# Altium integrated library Actel IGLOOPLUS FPGA.IntLib: 349 symbols (part 1 of 2)
Pins are listed as number, name and electrical type; pins without a type are passive.

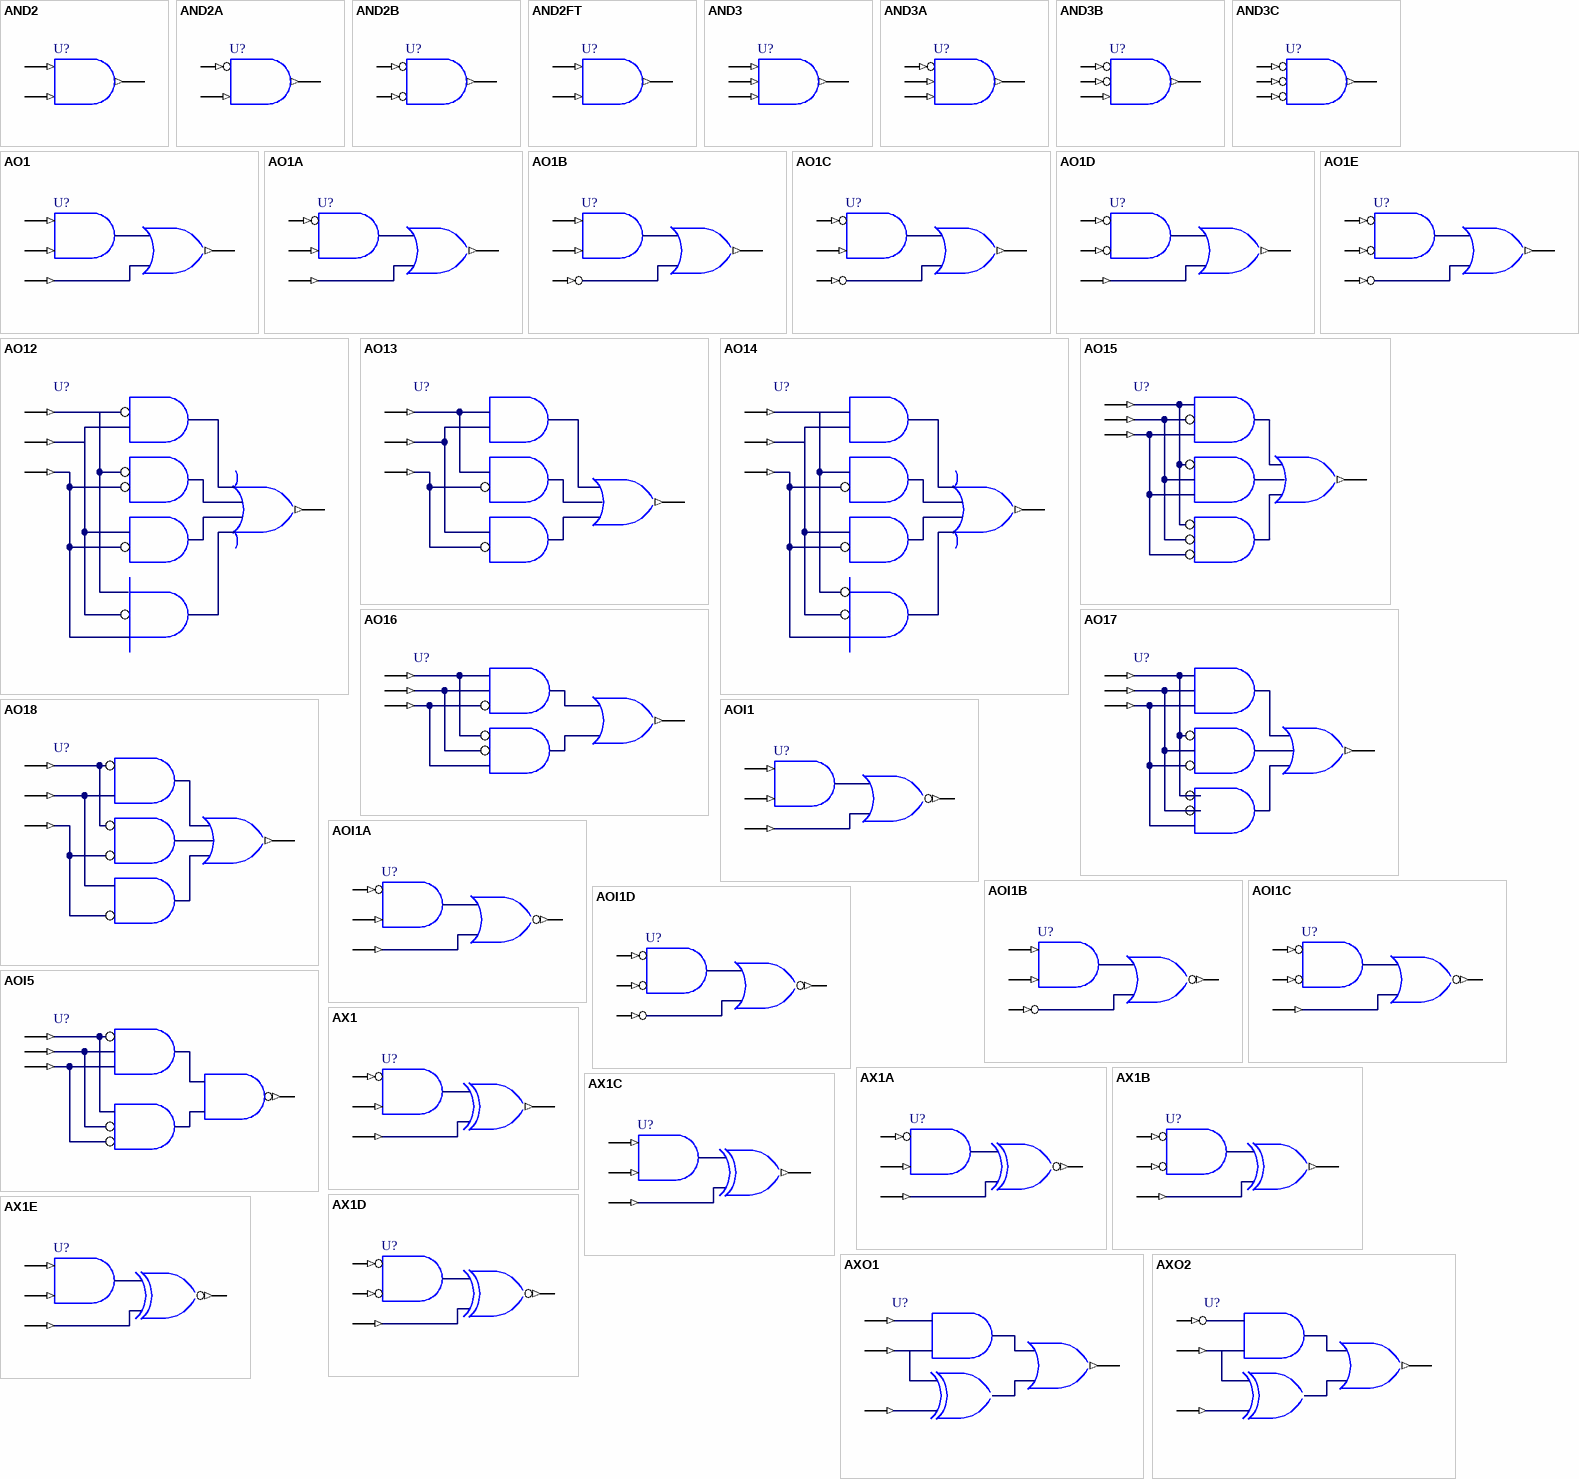
[diagram p0: symbols AND2 to AXO2]

## AND2
designator U?
2 Input AND; FPGAVendor: Actel; Published: 7-Sep-2009; Publisher: Altium Limited; HelpURL: http://www.actel.com/documents/pa3_libguide_ug.pdf
pins: A (in), B (in), Y (out)

## AND2A
designator U?
2 Input AND with Active Low A Input; FPGAVendor: Actel; Published: 7-Sep-2009; Publisher: Altium Limited; HelpURL: http://www.actel.com/documents/pa3_libguide_ug.pdf
pins: A (in), B (in), Y (out)

## AND2B
designator U?
2 Input AND with Active Low Inputs; FPGAVendor: Actel; Published: 7-Sep-2009; Publisher: Altium Limited; HelpURL: http://www.actel.com/documents/pa3_libguide_ug.pdf
pins: A (in), B (in), Y (out)

## AND2FT
designator U?
2 Input AND; FPGAVendor: Actel; Published: 7-Sep-2009; Publisher: Altium Limited; HelpURL: http://www.actel.com/documents/pa3_libguide_ug.pdf
pins: A (in), B (in), Y (out)

## AND3
designator U?
3 Input AND; FPGAVendor: Actel; Published: 7-Sep-2009; Publisher: Altium Limited; HelpURL: http://www.actel.com/documents/pa3_libguide_ug.pdf
pins: A (in), B (in), C (in), Y (out)

## AND3A
designator U?
3 Input AND with Active Low A Input; FPGAVendor: Actel; Published: 7-Sep-2009; Publisher: Altium Limited; HelpURL: http://www.actel.com/documents/pa3_libguide_ug.pdf
pins: A (in), B (in), C (in), Y (out)

## AND3B
designator U?
3 Input AND with Active Low A Input; FPGAVendor: Actel; Published: 7-Sep-2009; Publisher: Altium Limited; HelpURL: http://www.actel.com/documents/pa3_libguide_ug.pdf
pins: A (in), B (in), C (in), Y (out)

## AND3C
designator U?
3 Input AND-OR with Active Low A and C Inputs; FPGAVendor: Actel; Published: 7-Sep-2009; Publisher: Altium Limited; HelpURL: http://www.actel.com/documents/pa3_libguide_ug.pdf
pins: A (in), B (in), C (in), Y (out)

## AO1
designator U?
3 Input AND-OR with Active Low A Input; FPGAVendor: Actel; Published: 7-Sep-2009; Publisher: Altium Limited; HelpURL: http://www.actel.com/documents/pa3_libguide_ug.pdf
pins: A (in), B (in), C (in), Y (out)

## AO1A
designator U?
Ground; FPGAVendor: Actel; Published: 7-Sep-2009; Publisher: Altium Limited; HelpURL: http://www.actel.com/documents/pa3_libguide_ug.pdf
pins: A (in), B (in), C (in), Y (out)

## AO1B
designator U?
Inverter; FPGAVendor: Actel; Published: 7-Sep-2009; Publisher: Altium Limited; HelpURL: http://www.actel.com/documents/pa3_libguide_ug.pdf
pins: A (in), B (in), C (in), Y (out)

## AO1C
designator U?
2 to 1 Multiplexer; FPGAVendor: Actel; Published: 7-Sep-2009; Publisher: Altium Limited; HelpURL: http://www.actel.com/documents/pa3_libguide_ug.pdf
pins: A (in), B (in), C (in), Y (out)

## AO1D
designator U?
2 to 1 Multiplexer with Active Low Select; FPGAVendor: Actel; Published: 7-Sep-2009; Publisher: Altium Limited; HelpURL: http://www.actel.com/documents/pa3_libguide_ug.pdf
pins: A (in), B (in), C (in), Y (out)

## AO1E
designator U?
2 Input NAND; FPGAVendor: Actel; Published: 7-Sep-2009; Publisher: Altium Limited; HelpURL: http://www.actel.com/documents/pa3_libguide_ug.pdf
pins: A (in), B (in), C (in), Y (out)

## AO12
designator U?
3 Input AND-OR with Active Low C Input; FPGAVendor: Actel; Published: 7-Sep-2009; Publisher: Altium Limited; HelpURL: http://www.actel.com/documents/pa3_libguide_ug.pdf
pins: A (in), B (in), C (in), Y (out)

## AO13
designator U?
3 Input AND-OR-INVERT; FPGAVendor: Actel; Published: 7-Sep-2009; Publisher: Altium Limited; HelpURL: http://www.actel.com/documents/pa3_libguide_ug.pdf
pins: A (in), B (in), C (in), Y (out)

## AO14
designator U?
3 Input AND-OR-INVERT with Active Low A and C Inputs; FPGAVendor: Actel; Published: 7-Sep-2009; Publisher: Altium Limited; HelpURL: http://www.actel.com/documents/pa3_libguide_ug.pdf
pins: A (in), B (in), C (in), Y (out)

## AO15
designator U?
3 Input AND-OR-INVERT with Active Low A Input; FPGAVendor: Actel; Published: 7-Sep-2009; Publisher: Altium Limited; HelpURL: http://www.actel.com/documents/pa3_libguide_ug.pdf
pins: A (in), B (in), C (in), Y (out)

## AO16
designator U?
3 Input AND-OR-INVERT with Active Low C Input; FPGAVendor: Actel; Published: 7-Sep-2009; Publisher: Altium Limited; HelpURL: http://www.actel.com/documents/pa3_libguide_ug.pdf
pins: A (in), B (in), C (in), Y (out)

## AO17
designator U?
Buffer; FPGAVendor: Actel; Published: 7-Sep-2009; Publisher: Altium Limited; HelpURL: http://www.actel.com/documents/pa3_libguide_ug.pdf
pins: A (in), B (in), C (in), Y (out)

## AO18
designator U?
Inverter (Only for internal embedded memory); FPGAVendor: Actel; Published: 7-Sep-2009; Publisher: Altium Limited; HelpURL: http://www.actel.com/documents/pa3_libguide_ug.pdf
pins: A (in), B (in), C (in), Y (out)

## AOI1
designator U?
2 Input NAND with Active Low A Input; FPGAVendor: Actel; Published: 7-Sep-2009; Publisher: Altium Limited; HelpURL: http://www.actel.com/documents/pa3_libguide_ug.pdf
pins: A (in), B (in), C (in), Y (out)

## AOI1A
designator U?
3 Input NAND; FPGAVendor: Actel; Published: 7-Sep-2009; Publisher: Altium Limited; HelpURL: http://www.actel.com/documents/pa3_libguide_ug.pdf
pins: A (in), B (in), C (in), Y (out)

## AOI1B
designator U?
NAND3FTT; FPGAVendor: Actel; Published: 7-Sep-2009; Publisher: Altium Limited; HelpURL: http://www.actel.com/documents/pa3_libguide_ug.pdf
pins: A (in), B (in), C (in), Y (out)

## AOI1C
designator U?
NAND3FFT; FPGAVendor: Actel; Published: 7-Sep-2009; Publisher: Altium Limited; HelpURL: http://www.actel.com/documents/pa3_libguide_ug.pdf
pins: A (in), B (in), C (in), Y (out)

## AOI1D
designator U?
2 Input NOR; FPGAVendor: Actel; Published: 7-Sep-2009; Publisher: Altium Limited; HelpURL: http://www.actel.com/documents/pa3_libguide_ug.pdf
pins: A (in), B (in), C (in), Y (out)

## AOI5
designator U?
2 Input NOR with Active Low A Input; FPGAVendor: Actel; Published: 7-Sep-2009; Publisher: Altium Limited; HelpURL: http://www.actel.com/documents/pa3_libguide_ug.pdf
pins: A (in), B (in), C (in), Y (out)

## AX1
designator U?
3 Input NOR; FPGAVendor: Actel; Published: 7-Sep-2009; Publisher: Altium Limited; HelpURL: http://www.actel.com/documents/pa3_libguide_ug.pdf
pins: A (in), B (in), C (in), Y (out)

## AX1A
designator U?
3 Input NOR with Active Low A and B Inputs; FPGAVendor: Actel; Published: 7-Sep-2009; Publisher: Altium Limited; HelpURL: http://www.actel.com/documents/pa3_libguide_ug.pdf
pins: A (in), B (in), C (in), Y (out)

## AX1B
designator U?
3 Input NOR with Active Low A Input; FPGAVendor: Actel; Published: 7-Sep-2009; Publisher: Altium Limited; HelpURL: http://www.actel.com/documents/pa3_libguide_ug.pdf
pins: A (in), B (in), C (in), Y (out)

## AX1C
designator U?
Buffer (Only for internal embedded memory); FPGAVendor: Actel; Published: 7-Sep-2009; Publisher: Altium Limited; HelpURL: http://www.actel.com/documents/pa3_libguide_ug.pdf
pins: A (in), B (in), C (in), Y (out)

## AX1D
designator U?
3 Input OR-AND; FPGAVendor: Actel; Published: 7-Sep-2009; Publisher: Altium Limited; HelpURL: http://www.actel.com/documents/pa3_libguide_ug.pdf
pins: A (in), B (in), C (in), Y (out)

## AX1E
designator U?
3 Input OR-AND with Active Low A and C Inputs; FPGAVendor: Actel; Published: 7-Sep-2009; Publisher: Altium Limited; HelpURL: http://www.actel.com/documents/pa3_libguide_ug.pdf
pins: A (in), B (in), C (in), Y (out)

## AXO1
designator U?
3 Input OR-AND with Active Low A Input; FPGAVendor: Actel; Published: 7-Sep-2009; Publisher: Altium Limited; HelpURL: http://www.actel.com/documents/pa3_libguide_ug.pdf
pins: A (in), B (in), C (in), Y (out)

## AXO2
designator U?
3 Input OR-AND with Active Low C Input; FPGAVendor: Actel; Published: 7-Sep-2009; Publisher: Altium Limited; HelpURL: http://www.actel.com/documents/pa3_libguide_ug.pdf
pins: A (in), B (in), C (in), Y (out)

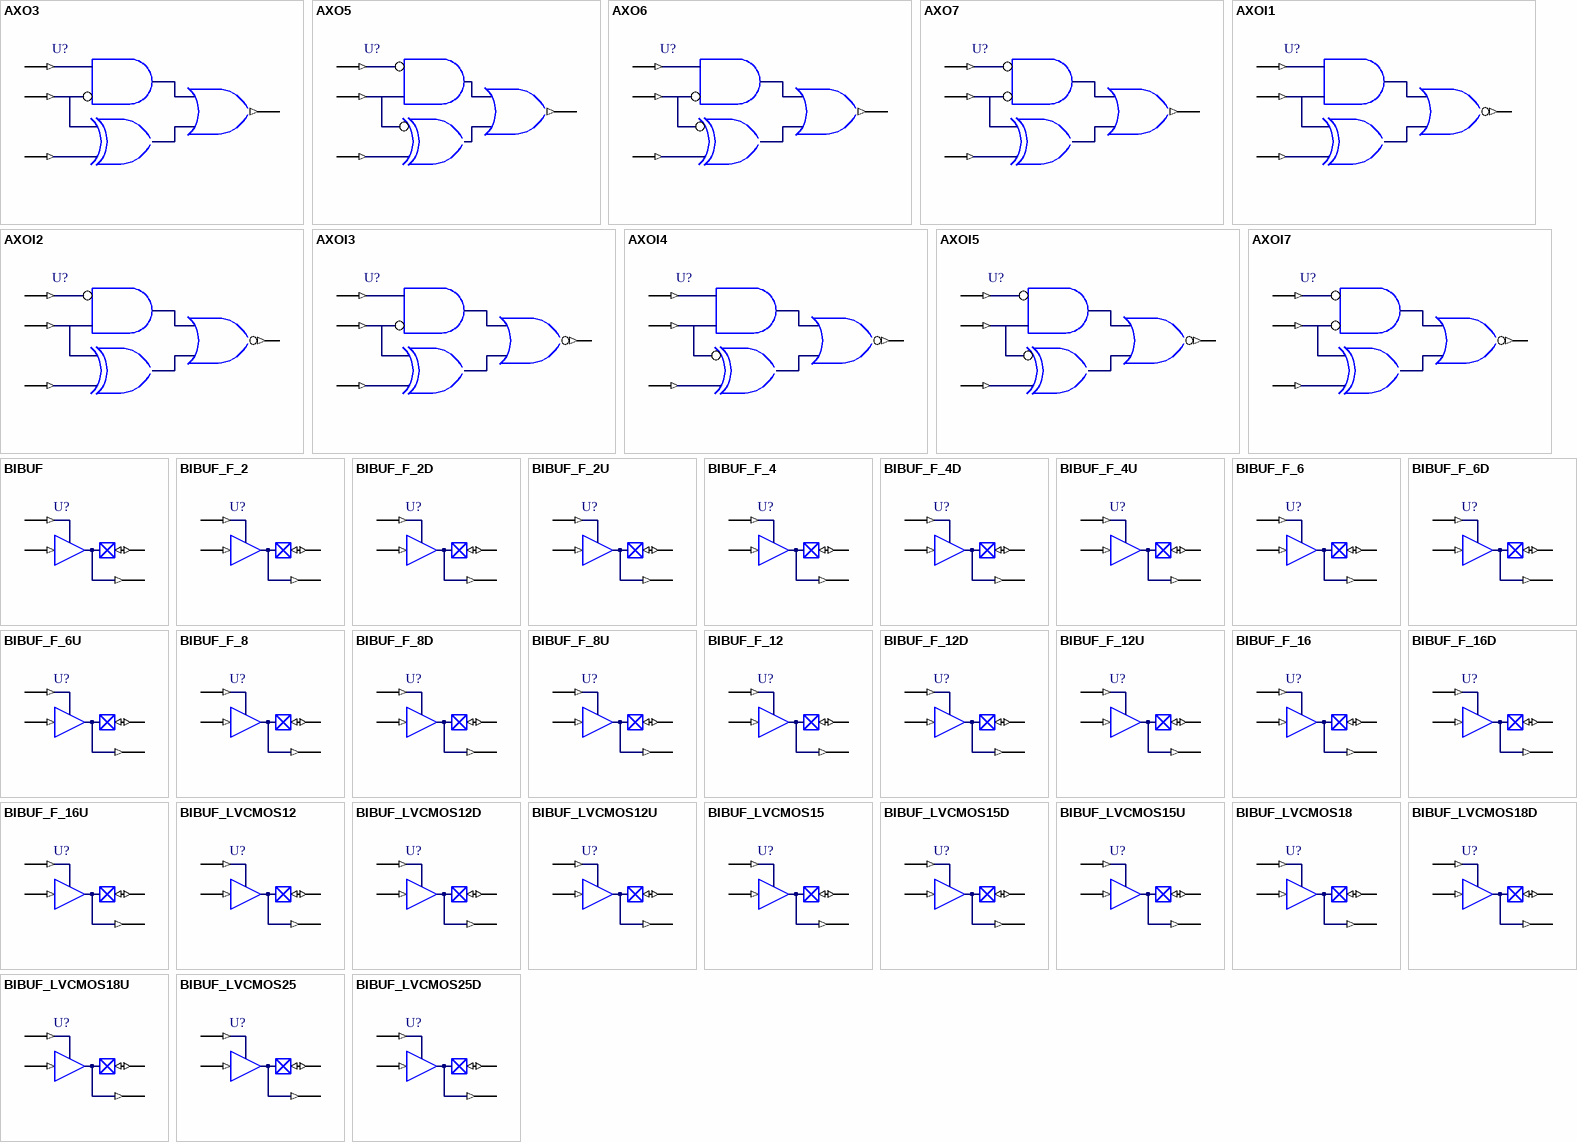
[diagram p1: symbols AXO3 to BIBUF_LVCMOS25D]

## AXO3
designator U?
3 Input OR-NAND; FPGAVendor: Actel; Published: 7-Sep-2009; Publisher: Altium Limited; HelpURL: http://www.actel.com/documents/pa3_libguide_ug.pdf
pins: A (in), B (in), C (in), Y (out)

## AXO5
designator U?
3 Input OR-NAND with Active Low A and C Inputs; FPGAVendor: Actel; Published: 7-Sep-2009; Publisher: Altium Limited; HelpURL: http://www.actel.com/documents/pa3_libguide_ug.pdf
pins: A (in), B (in), C (in), Y (out)

## AXO6
designator U?
3 Input OR-NAND with Active Low A Input; FPGAVendor: Actel; Published: 7-Sep-2009; Publisher: Altium Limited; HelpURL: http://www.actel.com/documents/pa3_libguide_ug.pdf
pins: A (in), B (in), C (in), Y (out)

## AXO7
designator U?
3 Input OR-NAND with Active Low C Input; FPGAVendor: Actel; Published: 7-Sep-2009; Publisher: Altium Limited; HelpURL: http://www.actel.com/documents/pa3_libguide_ug.pdf
pins: A (in), B (in), C (in), Y (out)

## AXOI1
designator U?
2 Input OR; FPGAVendor: Actel; Published: 7-Sep-2009; Publisher: Altium Limited; HelpURL: http://www.actel.com/documents/pa3_libguide_ug.pdf
pins: A (in), B (in), C (in), Y (out)

## AXOI2
designator U?
2 Input OR with Active Low A Input; FPGAVendor: Actel; Published: 7-Sep-2009; Publisher: Altium Limited; HelpURL: http://www.actel.com/documents/pa3_libguide_ug.pdf
pins: A (in), B (in), C (in), Y (out)

## AXOI3
designator U?
3 Input OR; FPGAVendor: Actel; Published: 7-Sep-2009; Publisher: Altium Limited; HelpURL: http://www.actel.com/documents/pa3_libguide_ug.pdf
pins: A (in), B (in), C (in), Y (out)

## AXOI4
designator U?
3 Input OR with Active Low A and B Inputs; FPGAVendor: Actel; Published: 7-Sep-2009; Publisher: Altium Limited; HelpURL: http://www.actel.com/documents/pa3_libguide_ug.pdf
pins: A (in), B (in), C (in), Y (out)

## AXOI5
designator U?
3 Input OR with Active Low A Input; FPGAVendor: Actel; Published: 7-Sep-2009; Publisher: Altium Limited; HelpURL: http://www.actel.com/documents/pa3_libguide_ug.pdf
pins: A (in), B (in), C (in), Y (out)

## AXOI7
designator U?
Power; FPGAVendor: Actel; Published: 7-Sep-2009; Publisher: Altium Limited; HelpURL: http://www.actel.com/documents/pa3_libguide_ug.pdf
pins: A (in), B (in), C (in), Y (out)

## BIBUF
designator U?
2 Input Exclusive NOR; FPGAVendor: Actel; Published: 7-Sep-2009; Publisher: Altium Limited; HelpURL: http://www.actel.com/documents/pa3_libguide_ug.pdf
pins: D (in), E (in), PAD (io), Y (out)

## BIBUF_F_2
designator U?
Positive Edge Triggered D-Type Flip-Flop with Active High Clear; FPGAVendor: Actel; Published: 7-Sep-2009; Publisher: Altium Limited; HelpURL: http://www.actel.com/documents/pa3_libguide_ug.pdf
pins: D (in), E (in), PAD (io), Y (out)

## BIBUF_F_2D
designator U?
Negative Edge Triggered D-Type Flip-Flop with Active High Set and Clear; FPGAVendor: Actel; Published: 7-Sep-2009; Publisher: Altium Limited; HelpURL: http://www.actel.com/documents/pa3_libguide_ug.pdf
pins: D (in), E (in), PAD (io), Y (out)

## BIBUF_F_2U
designator U?
Negative Edge Triggered D-Type Flip-Flop with Active High Set and Clear / and Active Low Output; FPGAVendor: Actel; Published: 7-Sep-2009; Publisher: Altium Limited; HelpURL: http://www.actel.com/documents/pa3_libguide_ug.pdf
pins: D (in), E (in), PAD (io), Y (out)

## BIBUF_F_4
designator U?
Negative Edge Triggered D-Type Flip-Flop with Active High Set; FPGAVendor: Actel; Published: 7-Sep-2009; Publisher: Altium Limited; HelpURL: http://www.actel.com/documents/pa3_libguide_ug.pdf
pins: D (in), E (in), PAD (io), Y (out)

## BIBUF_F_4D
designator U?
Negative Edge Triggered D-Type Flip-Flop with Active High Set and / Active Low Output; FPGAVendor: Actel; Published: 7-Sep-2009; Publisher: Altium Limited; HelpURL: http://www.actel.com/documents/pa3_libguide_ug.pdf
pins: D (in), E (in), PAD (io), Y (out)

## BIBUF_F_4U
designator U?
Positive Edge Triggered D-Type Flip-Flop with Active High Set; FPGAVendor: Actel; Published: 7-Sep-2009; Publisher: Altium Limited; HelpURL: http://www.actel.com/documents/pa3_libguide_ug.pdf
pins: D (in), E (in), PAD (io), Y (out)

## BIBUF_F_6
designator U?
Positive Edge Triggered D-Type Flip-Flop with Active High Set and Active / Low Output; FPGAVendor: Actel; Published: 7-Sep-2009; Publisher: Altium Limited; HelpURL: http://www.actel.com/documents/pa3_libguide_ug.pdf
pins: D (in), E (in), PAD (io), Y (out)

## BIBUF_F_6D
designator U?
Active High Latch; FPGAVendor: Actel; Published: 7-Sep-2009; Publisher: Altium Limited; HelpURL: http://www.actel.com/documents/pa3_libguide_ug.pdf
pins: D (in), E (in), PAD (io), Y (out)

## BIBUF_F_6U
designator U?
Active High Latch with Active High Set and Clear; FPGAVendor: Actel; Published: 7-Sep-2009; Publisher: Altium Limited; HelpURL: http://www.actel.com/documents/pa3_libguide_ug.pdf
pins: D (in), E (in), PAD (io), Y (out)

## BIBUF_F_8
designator U?
Active High Latch with Active High Set and Clear and Active Low Output; FPGAVendor: Actel; Published: 7-Sep-2009; Publisher: Altium Limited; HelpURL: http://www.actel.com/documents/pa3_libguide_ug.pdf
pins: D (in), E (in), PAD (io), Y (out)

## BIBUF_F_8D
designator U?
Active High Latch with Active High Clear; FPGAVendor: Actel; Published: 7-Sep-2009; Publisher: Altium Limited; HelpURL: http://www.actel.com/documents/pa3_libguide_ug.pdf
pins: D (in), E (in), PAD (io), Y (out)

## BIBUF_F_8U
designator U?
Active High Latch with Active High Clear and Active Low Output; FPGAVendor: Actel; Published: 7-Sep-2009; Publisher: Altium Limited; HelpURL: http://www.actel.com/documents/pa3_libguide_ug.pdf
pins: D (in), E (in), PAD (io), Y (out)

## BIBUF_F_12
designator U?
2 Input Exclusive NOR with Active Low A Input; FPGAVendor: Actel; Published: 7-Sep-2009; Publisher: Altium Limited; HelpURL: http://www.actel.com/documents/pa3_libguide_ug.pdf
pins: D (in), E (in), PAD (io), Y (out)

## BIBUF_F_12D
designator U?
2 Input Exclusive OR; FPGAVendor: Actel; Published: 7-Sep-2009; Publisher: Altium Limited; HelpURL: http://www.actel.com/documents/pa3_libguide_ug.pdf
pins: D (in), E (in), PAD (io), Y (out)

## BIBUF_F_12U
designator U?
2 Input Exclusive OR with Active Low A Input; FPGAVendor: Actel; Published: 7-Sep-2009; Publisher: Altium Limited; HelpURL: http://www.actel.com/documents/pa3_libguide_ug.pdf
pins: D (in), E (in), PAD (io), Y (out)

## BIBUF_F_16
designator U?
Positive Edge Triggered D-Type Flip-Flop; FPGAVendor: Actel; Published: 7-Sep-2009; Publisher: Altium Limited; HelpURL: http://www.actel.com/documents/pa3_libguide_ug.pdf
pins: D (in), E (in), PAD (io), Y (out)

## BIBUF_F_16D
designator U?
Positive Edge Triggered D-Type Flip-Flop with Active High Set and Clear; FPGAVendor: Actel; Published: 7-Sep-2009; Publisher: Altium Limited; HelpURL: http://www.actel.com/documents/pa3_libguide_ug.pdf
pins: D (in), E (in), PAD (io), Y (out)

## BIBUF_F_16U
designator U?
Positive Edge Triggered D-Type Flip-Flop with Active High Set and Clear / and Active Low Output; FPGAVendor: Actel; Published: 7-Sep-2009; Publisher: Altium Limited; HelpURL: http://www.actel.com/documents/pa3_libguide_ug.pdf
pins: D (in), E (in), PAD (io), Y (out)

## BIBUF_LVCMOS12
designator U?
LVCMOS12 Bi-Directional Pad; FPGAVendor: Actel; Published: 7-Sep-2009; Publisher: Altium Limited; HelpURL: http://www.actel.com/documents/pa3_libguide_ug.pdf
pins: D (in), E (in), PAD (io), Y (out)

## BIBUF_LVCMOS12D
designator U?
LVCMOS12D Bi-Directional Pad; FPGAVendor: Actel; Published: 7-Sep-2009; Publisher: Altium Limited; HelpURL: http://www.actel.com/documents/pa3_libguide_ug.pdf
pins: D (in), E (in), PAD (io), Y (out)

## BIBUF_LVCMOS12U
designator U?
LVCMOS12U Bi-Directional Pad; FPGAVendor: Actel; Published: 7-Sep-2009; Publisher: Altium Limited; HelpURL: http://www.actel.com/documents/pa3_libguide_ug.pdf
pins: D (in), E (in), PAD (io), Y (out)

## BIBUF_LVCMOS15
designator U?
Active Low Latch with Active Low Output; FPGAVendor: Actel; Published: 7-Sep-2009; Publisher: Altium Limited; HelpURL: http://www.actel.com/documents/pa3_libguide_ug.pdf
pins: D (in), E (in), PAD (io), Y (out)

## BIBUF_LVCMOS15D
designator U?
Active Low Latch with Active High Set; FPGAVendor: Actel; Published: 7-Sep-2009; Publisher: Altium Limited; HelpURL: http://www.actel.com/documents/pa3_libguide_ug.pdf
pins: D (in), E (in), PAD (io), Y (out)

## BIBUF_LVCMOS15U
designator U?
Active Low Latch with Active High Set and Active Low Output; FPGAVendor: Actel; Published: 7-Sep-2009; Publisher: Altium Limited; HelpURL: http://www.actel.com/documents/pa3_libguide_ug.pdf
pins: D (in), E (in), PAD (io), Y (out)

## BIBUF_LVCMOS18
designator U?
Active High Latch with Active High Set; FPGAVendor: Actel; Published: 7-Sep-2009; Publisher: Altium Limited; HelpURL: http://www.actel.com/documents/pa3_libguide_ug.pdf
pins: D (in), E (in), PAD (io), Y (out)

## BIBUF_LVCMOS18D
designator U?
Active High Latch with Active High Set and Active Low Output; FPGAVendor: Actel; Published: 7-Sep-2009; Publisher: Altium Limited; HelpURL: http://www.actel.com/documents/pa3_libguide_ug.pdf
pins: D (in), E (in), PAD (io), Y (out)

## BIBUF_LVCMOS18U
designator U?
2.5 Volt CMOS input levels; FPGAVendor: Actel; Published: 7-Sep-2009; Publisher: Altium Limited; HelpURL: http://www.actel.com/documents/pa3_libguide_ug.pdf
pins: D (in), E (in), PAD (io), Y (out)

## BIBUF_LVCMOS25
designator U?
3.3 Volt CMOS input levels; FPGAVendor: Actel; Published: 7-Sep-2009; Publisher: Altium Limited; HelpURL: http://www.actel.com/documents/pa3_libguide_ug.pdf
pins: D (in), E (in), PAD (io), Y (out)

## BIBUF_LVCMOS25D
designator U?
2.5 Volt CMOS input levels, low power; FPGAVendor: Actel; Published: 7-Sep-2009; Publisher: Altium Limited; HelpURL: http://www.actel.com/documents/pa3_libguide_ug.pdf
pins: D (in), E (in), PAD (io), Y (out)

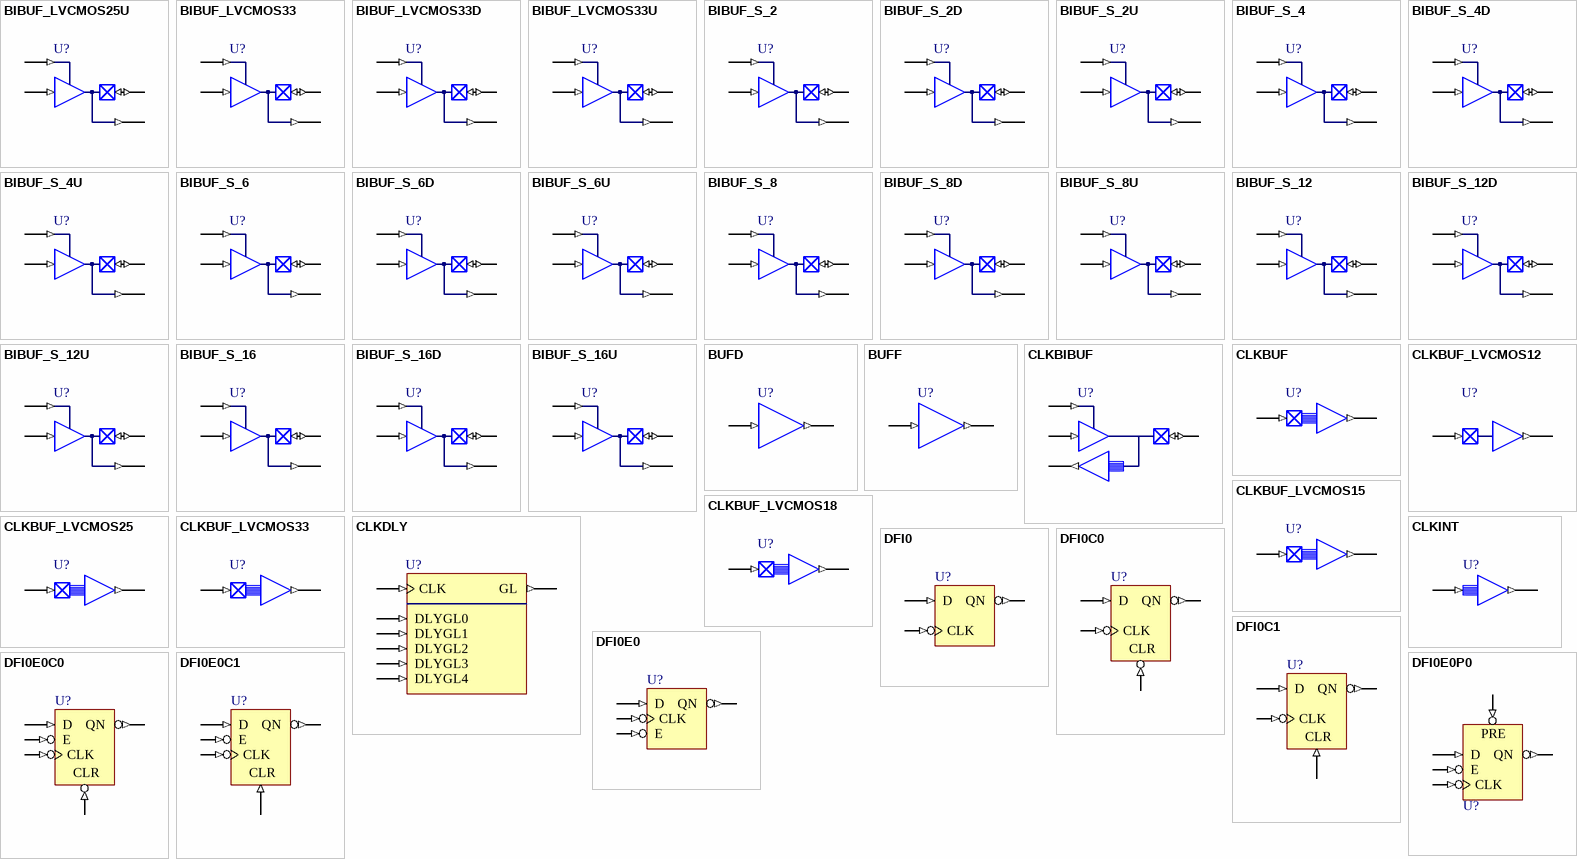
[diagram p2: symbols BIBUF_LVCMOS25U to DFI0E0P0]

## BIBUF_LVCMOS25U
designator U?
2.5 Volt CMOS input levels, Schmitt Trigger; FPGAVendor: Actel; Published: 7-Sep-2009; Publisher: Altium Limited; HelpURL: http://www.actel.com/documents/pa3_libguide_ug.pdf
pins: D (in), E (in), PAD (io), Y (out)

## BIBUF_LVCMOS33
designator U?
3.3 Volt CMOS input levels, Schmitt Trigger; FPGAVendor: Actel; Published: 7-Sep-2009; Publisher: Altium Limited; HelpURL: http://www.actel.com/documents/pa3_libguide_ug.pdf
pins: D (in), E (in), PAD (io), Y (out)

## BIBUF_LVCMOS33D
designator U?
2.5 Volt CMOS input levels, low power, Schmitt Trigger; FPGAVendor: Actel; Published: 7-Sep-2009; Publisher: Altium Limited; HelpURL: http://www.actel.com/documents/pa3_libguide_ug.pdf
pins: D (in), E (in), PAD (io), Y (out)

## BIBUF_LVCMOS33U
designator U?
2.5 Volt CMOS input levels, with pull-up resistor; FPGAVendor: Actel; Published: 7-Sep-2009; Publisher: Altium Limited; HelpURL: http://www.actel.com/documents/pa3_libguide_ug.pdf
pins: D (in), E (in), PAD (io), Y (out)

## BIBUF_S_2
designator U?
2.5 Volt CMOS input levels, low power, Schmitt Trigger; FPGAVendor: Actel; Published: 7-Sep-2009; Publisher: Altium Limited; HelpURL: http://www.actel.com/documents/pa3_libguide_ug.pdf
pins: D (in), E (in), PAD (io), Y (out)

## BIBUF_S_2D
designator U?
2.5 Volt CMOS input levels, with pull-up resistor and Schmitt Trigger; FPGAVendor: Actel; Published: 7-Sep-2009; Publisher: Altium Limited; HelpURL: http://www.actel.com/documents/pa3_libguide_ug.pdf
pins: D (in), E (in), PAD (io), Y (out)

## BIBUF_S_2U
designator U?
3.3 Volt CMOS input levels, with pull-up resistor and Schmitt Trigger; FPGAVendor: Actel; Published: 7-Sep-2009; Publisher: Altium Limited; HelpURL: http://www.actel.com/documents/pa3_libguide_ug.pdf
pins: D (in), E (in), PAD (io), Y (out)

## BIBUF_S_4
designator U?
2.5 Volt CMOS input levels, low power; FPGAVendor: Actel; Published: 7-Sep-2009; Publisher: Altium Limited; HelpURL: http://www.actel.com/documents/pa3_libguide_ug.pdf
pins: D (in), E (in), PAD (io), Y (out)

## BIBUF_S_4D
designator U?
2.5 Volt CMOS input levels, Schmitt Trigger; FPGAVendor: Actel; Published: 7-Sep-2009; Publisher: Altium Limited; HelpURL: http://www.actel.com/documents/pa3_libguide_ug.pdf
pins: D (in), E (in), PAD (io), Y (out)

## BIBUF_S_4U
designator U?
3.3 Volt CMOS input levels, Schmitt Trigger; FPGAVendor: Actel; Published: 7-Sep-2009; Publisher: Altium Limited; HelpURL: http://www.actel.com/documents/pa3_libguide_ug.pdf
pins: D (in), E (in), PAD (io), Y (out)

## BIBUF_S_6
designator U?
2.5 Volt CMOS input levels, low power, Schmitt Trigger; FPGAVendor: Actel; Published: 7-Sep-2009; Publisher: Altium Limited; HelpURL: http://www.actel.com/documents/pa3_libguide_ug.pdf
pins: D (in), E (in), PAD (io), Y (out)

## BIBUF_S_6D
designator U?
2.5 Volt CMOS input levels, with pull-up resistor; FPGAVendor: Actel; Published: 7-Sep-2009; Publisher: Altium Limited; HelpURL: http://www.actel.com/documents/pa3_libguide_ug.pdf
pins: D (in), E (in), PAD (io), Y (out)

## BIBUF_S_6U
designator U?
3.3 Volt CMOS input levels, with pull-up resistor; FPGAVendor: Actel; Published: 7-Sep-2009; Publisher: Altium Limited; HelpURL: http://www.actel.com/documents/pa3_libguide_ug.pdf
pins: D (in), E (in), PAD (io), Y (out)

## BIBUF_S_8
designator U?
2.5 Volt CMOS input levels, low power, with pull-up resistor; FPGAVendor: Actel; Published: 7-Sep-2009; Publisher: Altium Limited; HelpURL: http://www.actel.com/documents/pa3_libguide_ug.pdf
pins: D (in), E (in), PAD (io), Y (out)

## BIBUF_S_8D
designator U?
2.5 Volt CMOS input levels, with pull-up resistor and Schmitt Trigger; FPGAVendor: Actel; Published: 7-Sep-2009; Publisher: Altium Limited; HelpURL: http://www.actel.com/documents/pa3_libguide_ug.pdf
pins: D (in), E (in), PAD (io), Y (out)

## BIBUF_S_8U
designator U?
3.3 Volt CMOS input levels, with pull-up resistor and Schmitt Trigger; FPGAVendor: Actel; Published: 7-Sep-2009; Publisher: Altium Limited; HelpURL: http://www.actel.com/documents/pa3_libguide_ug.pdf
pins: D (in), E (in), PAD (io), Y (out)

## BIBUF_S_12
designator U?
Global Buffer with Internal Connection; FPGAVendor: Actel; Published: 7-Sep-2009; Publisher: Altium Limited; HelpURL: http://www.actel.com/documents/pa3_libguide_ug.pdf
pins: D (in), E (in), PAD (io), Y (out)

## BIBUF_S_12D
designator U?
2.5 Volt CMOS input levels; FPGAVendor: Actel; Published: 7-Sep-2009; Publisher: Altium Limited; HelpURL: http://www.actel.com/documents/pa3_libguide_ug.pdf
pins: D (in), E (in), PAD (io), Y (out)

## BIBUF_S_12U
designator U?
3.3 Volt CMOS input levels; FPGAVendor: Actel; Published: 7-Sep-2009; Publisher: Altium Limited; HelpURL: http://www.actel.com/documents/pa3_libguide_ug.pdf
pins: D (in), E (in), PAD (io), Y (out)

## BIBUF_S_16
designator U?
2.5 Volt CMOS input levels, low power; FPGAVendor: Actel; Published: 7-Sep-2009; Publisher: Altium Limited; HelpURL: http://www.actel.com/documents/pa3_libguide_ug.pdf
pins: D (in), E (in), PAD (io), Y (out)

## BIBUF_S_16D
designator U?
2.5 Volt CMOS input levels, Schmitt Trigger; FPGAVendor: Actel; Published: 7-Sep-2009; Publisher: Altium Limited; HelpURL: http://www.actel.com/documents/pa3_libguide_ug.pdf
pins: D (in), E (in), PAD (io), Y (out)

## BIBUF_S_16U
designator U?
3.3 Volt CMOS input levels, Schmitt Trigger; FPGAVendor: Actel; Published: 7-Sep-2009; Publisher: Altium Limited; HelpURL: http://www.actel.com/documents/pa3_libguide_ug.pdf
pins: D (in), E (in), PAD (io), Y (out)

## BUFD
designator U?
2.5 Volt CMOS input levels, Schmitt Trigger; FPGAVendor: Actel; Published: 7-Sep-2009; Publisher: Altium Limited; HelpURL: http://www.actel.com/documents/pa3_libguide_ug.pdf
pins: A (in), Y (out)

## BUFF
designator U?
3.3 Volt CMOS input levels, Schmitt Trigger; FPGAVendor: Actel; Published: 7-Sep-2009; Publisher: Altium Limited; HelpURL: http://www.actel.com/documents/pa3_libguide_ug.pdf
pins: A (in), Y (out)

## CLKBIBUF
designator U?
2.5 Volt CMOS input levels, low power, Schmitt Trigger; FPGAVendor: Actel; Published: 7-Sep-2009; Publisher: Altium Limited; HelpURL: http://www.actel.com/documents/pa3_libguide_ug.pdf
pins: D (in), E (in), PAD (io), Y (out)

## CLKBUF
designator U?
3.3 Volt CMOS input levels, with pull-up resistor; FPGAVendor: Actel; Published: 7-Sep-2009; Publisher: Altium Limited; HelpURL: http://www.actel.com/documents/pa3_libguide_ug.pdf
pins: PAD (in), Y (out)

## CLKBUF_LVCMOS12
designator U?
LVCMOS12 Bi-Directional Pad; FPGAVendor: Actel; Published: 7-Sep-2009; Publisher: Altium Limited; HelpURL: http://www.actel.com/documents/pa3_libguide_ug.pdf
pins: PAD (in), Y (out)

## CLKBUF_LVCMOS15
designator U?
2.5 Volt CMOS input levels, low power; FPGAVendor: Actel; Published: 7-Sep-2009; Publisher: Altium Limited; HelpURL: http://www.actel.com/documents/pa3_libguide_ug.pdf
pins: PAD (in), Y (out)

## CLKBUF_LVCMOS18
designator U?
2.5 Volt CMOS input levels, Schmitt Trigger; FPGAVendor: Actel; Published: 7-Sep-2009; Publisher: Altium Limited; HelpURL: http://www.actel.com/documents/pa3_libguide_ug.pdf
pins: PAD (in), Y (out)

## CLKBUF_LVCMOS25
designator U?
3.3 Volt CMOS input levels, Schmitt Trigger; FPGAVendor: Actel; Published: 7-Sep-2009; Publisher: Altium Limited; HelpURL: http://www.actel.com/documents/pa3_libguide_ug.pdf
pins: PAD (in), Y (out)

## CLKBUF_LVCMOS33
designator U?
2.5 Volt CMOS input levels, low power, Schmitt Trigger; FPGAVendor: Actel; Published: 7-Sep-2009; Publisher: Altium Limited; HelpURL: http://www.actel.com/documents/pa3_libguide_ug.pdf
pins: PAD (in), Y (out)

## CLKDLY
designator U?
2.5 Volt CMOS input levels, low drive strength, high slew rate; FPGAVendor: Actel; Published: 7-Sep-2009; Publisher: Altium Limited; HelpURL: http://www.actel.com/documents/pa3_libguide_ug.pdf
pins: CLK (in), DLYGL0 (in), DLYGL1 (in), DLYGL2 (in), DLYGL3 (in), DLYGL4 (in), GL (out)

## CLKINT
designator U?
2.5 Volt CMOS input levels, low drive strength, low slew rate; FPGAVendor: Actel; Published: 7-Sep-2009; Publisher: Altium Limited; HelpURL: http://www.actel.com/documents/pa3_libguide_ug.pdf
pins: A (in), Y (out)

## DFI0
designator U?
2.5 Volt CMOS input levels, high drive strength, low slew rate, with pull-up resistor; FPGAVendor: Actel; Published: 7-Sep-2009; Publisher: Altium Limited; HelpURL: http://www.actel.com/documents/pa3_libguide_ug.pdf
pins: CLK (in), D (in), QN (out)

## DFI0C0
designator U?
2.5 Volt CMOS input levels, high drive strength, normal slew rate, with pull-up resistor; FPGAVendor: Actel; Published: 7-Sep-2009; Publisher: Altium Limited; HelpURL: http://www.actel.com/documents/pa3_libguide_ug.pdf
pins: CLK (in), CLR (in), D (in), QN (out)

## DFI0C1
designator U?
2.5 Volt CMOS input levels, low drive strength, high slew rate, with pull-up resistor; FPGAVendor: Actel; Published: 7-Sep-2009; Publisher: Altium Limited; HelpURL: http://www.actel.com/documents/pa3_libguide_ug.pdf
pins: CLK (in), CLR (in), D (in), QN (out)

## DFI0E0
designator U?
2.5 Volt CMOS input levels, low drive strength, low slew rate, with pull-up resistor; FPGAVendor: Actel; Published: 7-Sep-2009; Publisher: Altium Limited; HelpURL: http://www.actel.com/documents/pa3_libguide_ug.pdf
pins: CLK (in), D (in), E (in), QN (out)

## DFI0E0C0
designator U?
2.5 Volt CMOS input levels, low drive strength, normal slew rate, with pull-up resistor; FPGAVendor: Actel; Published: 7-Sep-2009; Publisher: Altium Limited; HelpURL: http://www.actel.com/documents/pa3_libguide_ug.pdf
pins: CLK (in), CLR (in), D (in), E (in), QN (out)

## DFI0E0C1
designator U?
2.5 Volt CMOS input levels, low power, high drive strength, high slew rate; FPGAVendor: Actel; Published: 7-Sep-2009; Publisher: Altium Limited; HelpURL: http://www.actel.com/documents/pa3_libguide_ug.pdf
pins: CLK (in), CLR (in), D (in), E (in), QN (out)

## DFI0E0P0
designator U?
2.5 Volt CMOS input levels, low power, high drive strength, low slew rate; FPGAVendor: Actel; Published: 7-Sep-2009; Publisher: Altium Limited; HelpURL: http://www.actel.com/documents/pa3_libguide_ug.pdf
pins: CLK (in), D (in), E (in), PRE (in), QN (out)

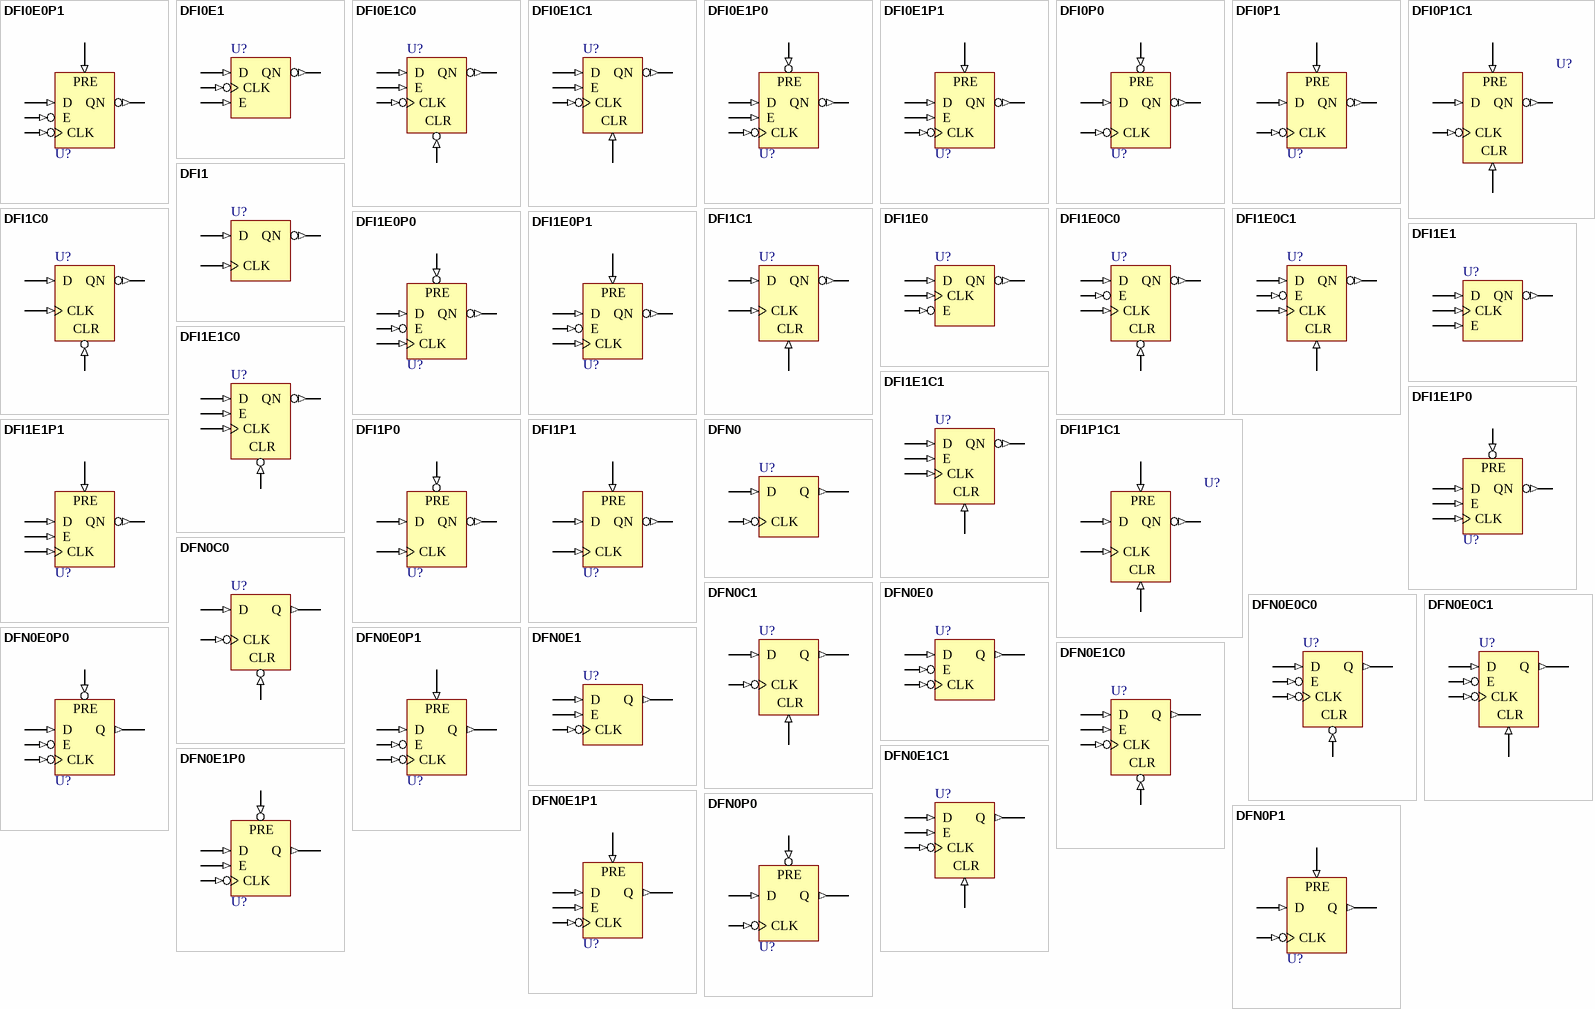
[diagram p3: symbols DFI0E0P1 to DFN0P1]

## DFI0E0P1
designator U?
2.5 Volt CMOS input levels, low power, high drive strength, normal slew rate; FPGAVendor: Actel; Published: 7-Sep-2009; Publisher: Altium Limited; HelpURL: http://www.actel.com/documents/pa3_libguide_ug.pdf
pins: CLK (in), D (in), E (in), PRE (in), QN (out)

## DFI0E1
designator U?
2.5 Volt CMOS input levels, low power, low drive strength, high slew rate; FPGAVendor: Actel; Published: 7-Sep-2009; Publisher: Altium Limited; HelpURL: http://www.actel.com/documents/pa3_libguide_ug.pdf
pins: CLK (in), D (in), E (in), QN (out)

## DFI0E1C0
designator U?
2.5 Volt CMOS input levels, low power, low drive strength, low slew rate; FPGAVendor: Actel; Published: 7-Sep-2009; Publisher: Altium Limited; HelpURL: http://www.actel.com/documents/pa3_libguide_ug.pdf
pins: CLK (in), CLR (in), D (in), E (in), QN (out)

## DFI0E1C1
designator U?
2.5 Volt CMOS input levels, low power, low drive strength, normal slew rate; FPGAVendor: Actel; Published: 7-Sep-2009; Publisher: Altium Limited; HelpURL: http://www.actel.com/documents/pa3_libguide_ug.pdf
pins: CLK (in), CLR (in), D (in), E (in), QN (out)

## DFI0E1P0
designator U?
2.5 Volt CMOS input levels, low power, high drive strength, high slew rate, with pull-up resistor; FPGAVendor: Actel; Published: 7-Sep-2009; Publisher: Altium Limited; HelpURL: http://www.actel.com/documents/pa3_libguide_ug.pdf
pins: CLK (in), D (in), E (in), PRE (in), QN (out)

## DFI0E1P1
designator U?
2.5 Volt CMOS input levels, low power, high drive strength, low slew rate, with pull-up resistor; FPGAVendor: Actel; Published: 7-Sep-2009; Publisher: Altium Limited; HelpURL: http://www.actel.com/documents/pa3_libguide_ug.pdf
pins: CLK (in), D (in), E (in), PRE (in), QN (out)

## DFI0P0
designator U?
2.5 Volt CMOS input levels, low power, high drive strength, normal slew rate, with pull-up resistor; FPGAVendor: Actel; Published: 7-Sep-2009; Publisher: Altium Limited; HelpURL: http://www.actel.com/documents/pa3_libguide_ug.pdf
pins: CLK (in), D (in), PRE (in), QN (out)

## DFI0P1
designator U?
2.5 Volt CMOS input levels, low power, low drive strength, high slew rate, with pull-up resistor; FPGAVendor: Actel; Published: 7-Sep-2009; Publisher: Altium Limited; HelpURL: http://www.actel.com/documents/pa3_libguide_ug.pdf
pins: CLK (in), D (in), PRE (in), QN (out)

## DFI0P1C1
designator U?
2.5 Volt CMOS input levels, low power, low drive strength, low slew rate, with pull-up resistor; FPGAVendor: Actel; Published: 7-Sep-2009; Publisher: Altium Limited; HelpURL: http://www.actel.com/documents/pa3_libguide_ug.pdf
pins: CLK (in), CLR (in), D (in), PRE (in), QN (out)

## DFI1
designator U?
2.5 Volt CMOS input levels, low power, low drive strength, normal slew rate, with pull-up resistor; FPGAVendor: Actel; Published: 7-Sep-2009; Publisher: Altium Limited; HelpURL: http://www.actel.com/documents/pa3_libguide_ug.pdf
pins: CLK (in), D (in), QN (out)

## DFI1C0
designator U?
3.3 Volt CMOS input levels, low strength drive, high slew rate; FPGAVendor: Actel; Published: 7-Sep-2009; Publisher: Altium Limited; HelpURL: http://www.actel.com/documents/pa3_libguide_ug.pdf
pins: CLK (in), CLR (in), D (in), QN (out)

## DFI1C1
designator U?
3.3 Volt CMOS input levels, low strength drive, low slew rate; FPGAVendor: Actel; Published: 7-Sep-2009; Publisher: Altium Limited; HelpURL: http://www.actel.com/documents/pa3_libguide_ug.pdf
pins: CLK (in), CLR (in), D (in), QN (out)

## DFI1E0
designator U?
3.3 Volt CMOS input levels, low strength drive, normal slew rate; FPGAVendor: Actel; Published: 7-Sep-2009; Publisher: Altium Limited; HelpURL: http://www.actel.com/documents/pa3_libguide_ug.pdf
pins: CLK (in), D (in), E (in), QN (out)

## DFI1E0C0
designator U?
3.3 Volt CMOS input levels, PCI compliant, high slew rate; FPGAVendor: Actel; Published: 7-Sep-2009; Publisher: Altium Limited; HelpURL: http://www.actel.com/documents/pa3_libguide_ug.pdf
pins: CLK (in), CLR (in), D (in), E (in), QN (out)

## DFI1E0C1
designator U?
3.3 Volt CMOS input levels, PCI compliant, low slew rate; FPGAVendor: Actel; Published: 7-Sep-2009; Publisher: Altium Limited; HelpURL: http://www.actel.com/documents/pa3_libguide_ug.pdf
pins: CLK (in), CLR (in), D (in), E (in), QN (out)

## DFI1E0P0
designator U?
3.3 Volt CMOS input levels, PCI compliant, normal slew rate; FPGAVendor: Actel; Published: 7-Sep-2009; Publisher: Altium Limited; HelpURL: http://www.actel.com/documents/pa3_libguide_ug.pdf
pins: CLK (in), D (in), E (in), PRE (in), QN (out)

## DFI1E0P1
designator U?
3.3 Volt CMOS input levels, low strength drive, high slew rate, with pull-up resistor; FPGAVendor: Actel; Published: 7-Sep-2009; Publisher: Altium Limited; HelpURL: http://www.actel.com/documents/pa3_libguide_ug.pdf
pins: CLK (in), D (in), E (in), PRE (in), QN (out)

## DFI1E1
designator U?
3.3 Volt CMOS input levels, low strength drive, low slew rate, with pull-up resistor; FPGAVendor: Actel; Published: 7-Sep-2009; Publisher: Altium Limited; HelpURL: http://www.actel.com/documents/pa3_libguide_ug.pdf
pins: CLK (in), D (in), E (in), QN (out)

## DFI1E1C0
designator U?
3.3 Volt CMOS input levels, low strength drive, normal slew rate, with pull-up resistor; FPGAVendor: Actel; Published: 7-Sep-2009; Publisher: Altium Limited; HelpURL: http://www.actel.com/documents/pa3_libguide_ug.pdf
pins: CLK (in), CLR (in), D (in), E (in), QN (out)

## DFI1E1C1
designator U?
3.3 Volt CMOS input levels, PCI compliant, high slew rate, with pull-up resistor; FPGAVendor: Actel; Published: 7-Sep-2009; Publisher: Altium Limited; HelpURL: http://www.actel.com/documents/pa3_libguide_ug.pdf
pins: CLK (in), CLR (in), D (in), E (in), QN (out)

## DFI1E1P0
designator U?
3.3 Volt CMOS input levels, PCI compliant, low slew rate, with pull-up resistor; FPGAVendor: Actel; Published: 7-Sep-2009; Publisher: Altium Limited; HelpURL: http://www.actel.com/documents/pa3_libguide_ug.pdf
pins: CLK (in), D (in), E (in), PRE (in), QN (out)

## DFI1E1P1
designator U?
3.3 Volt CMOS input levels, PCI compliant, normal slew rate, with pull-up resistor; FPGAVendor: Actel; Published: 7-Sep-2009; Publisher: Altium Limited; HelpURL: http://www.actel.com/documents/pa3_libguide_ug.pdf
pins: CLK (in), D (in), E (in), PRE (in), QN (out)

## DFI1P0
designator U?
2.5 Volt CMOS input levels, high drive strength, high slew rate; FPGAVendor: Actel; Published: 7-Sep-2009; Publisher: Altium Limited; HelpURL: http://www.actel.com/documents/pa3_libguide_ug.pdf
pins: CLK (in), D (in), PRE (in), QN (out)

## DFI1P1
designator U?
2.5 Volt CMOS input levels, high drive strength, low slew rate; FPGAVendor: Actel; Published: 7-Sep-2009; Publisher: Altium Limited; HelpURL: http://www.actel.com/documents/pa3_libguide_ug.pdf
pins: CLK (in), D (in), PRE (in), QN (out)

## DFI1P1C1
designator U?
2.5 Volt CMOS input levels, high drive strength, normal slew rate; FPGAVendor: Actel; Published: 7-Sep-2009; Publisher: Altium Limited; HelpURL: http://www.actel.com/documents/pa3_libguide_ug.pdf
pins: CLK (in), CLR (in), D (in), PRE (in), QN (out)

## DFN0
designator U?
2.5 Volt CMOS input levels, low drive strength, high slew rate; FPGAVendor: Actel; Published: 7-Sep-2009; Publisher: Altium Limited; HelpURL: http://www.actel.com/documents/pa3_libguide_ug.pdf
pins: CLK (in), D (in), Q (out)

## DFN0C0
designator U?
2.5 Volt CMOS input levels, low drive strength, low slew rate; FPGAVendor: Actel; Published: 7-Sep-2009; Publisher: Altium Limited; HelpURL: http://www.actel.com/documents/pa3_libguide_ug.pdf
pins: CLK (in), CLR (in), D (in), Q (out)

## DFN0C1
designator U?
2.5 Volt CMOS input levels, low drive strength, normal slew rate; FPGAVendor: Actel; Published: 7-Sep-2009; Publisher: Altium Limited; HelpURL: http://www.actel.com/documents/pa3_libguide_ug.pdf
pins: CLK (in), CLR (in), D (in), Q (out)

## DFN0E0
designator U?
2.5 Volt CMOS input levels, high drive strength, high slew rate, with pull-up resistor; FPGAVendor: Actel; Published: 7-Sep-2009; Publisher: Altium Limited; HelpURL: http://www.actel.com/documents/pa3_libguide_ug.pdf
pins: CLK (in), D (in), E (in), Q (out)

## DFN0E0C0
designator U?
2.5 Volt CMOS input levels, high drive strength, low slew rate, with pull-up resistor; FPGAVendor: Actel; Published: 7-Sep-2009; Publisher: Altium Limited; HelpURL: http://www.actel.com/documents/pa3_libguide_ug.pdf
pins: CLK (in), CLR (in), D (in), E (in), Q (out)

## DFN0E0C1
designator U?
2.5 Volt CMOS input levels, high drive strength, normal slew rate, with pull-up resistor; FPGAVendor: Actel; Published: 7-Sep-2009; Publisher: Altium Limited; HelpURL: http://www.actel.com/documents/pa3_libguide_ug.pdf
pins: CLK (in), CLR (in), D (in), E (in), Q (out)

## DFN0E0P0
designator U?
2.5 Volt CMOS input levels, low drive strength, high slew rate, with pull-up resistor; FPGAVendor: Actel; Published: 7-Sep-2009; Publisher: Altium Limited; HelpURL: http://www.actel.com/documents/pa3_libguide_ug.pdf
pins: CLK (in), D (in), E (in), PRE (in), Q (out)

## DFN0E0P1
designator U?
2.5 Volt CMOS input levels, low drive strength, low slew rate, with pull-up resistor; FPGAVendor: Actel; Published: 7-Sep-2009; Publisher: Altium Limited; HelpURL: http://www.actel.com/documents/pa3_libguide_ug.pdf
pins: CLK (in), D (in), E (in), PRE (in), Q (out)

## DFN0E1
designator U?
2.5 Volt CMOS input levels, low drive strength, normal slew rate, with pull-up resistor; FPGAVendor: Actel; Published: 7-Sep-2009; Publisher: Altium Limited; HelpURL: http://www.actel.com/documents/pa3_libguide_ug.pdf
pins: CLK (in), D (in), E (in), Q (out)

## DFN0E1C0
designator U?
2.5 Volt CMOS input levels, low power, high drive strength, high slew rate; FPGAVendor: Actel; Published: 7-Sep-2009; Publisher: Altium Limited; HelpURL: http://www.actel.com/documents/pa3_libguide_ug.pdf
pins: CLK (in), CLR (in), D (in), E (in), Q (out)

## DFN0E1C1
designator U?
2.5 Volt CMOS input levels, low power, high drive strength, low slew rate; FPGAVendor: Actel; Published: 7-Sep-2009; Publisher: Altium Limited; HelpURL: http://www.actel.com/documents/pa3_libguide_ug.pdf
pins: CLK (in), CLR (in), D (in), E (in), Q (out)

## DFN0E1P0
designator U?
2.5 Volt CMOS input levels, low power, high drive strength, normal slew rate; FPGAVendor: Actel; Published: 7-Sep-2009; Publisher: Altium Limited; HelpURL: http://www.actel.com/documents/pa3_libguide_ug.pdf
pins: CLK (in), D (in), E (in), PRE (in), Q (out)

## DFN0E1P1
designator U?
2.5 Volt CMOS input levels, low power, low drive strength, high slew rate; FPGAVendor: Actel; Published: 7-Sep-2009; Publisher: Altium Limited; HelpURL: http://www.actel.com/documents/pa3_libguide_ug.pdf
pins: CLK (in), D (in), E (in), PRE (in), Q (out)

## DFN0P0
designator U?
2.5 Volt CMOS input levels, low power, low drive strength, low slew rate; FPGAVendor: Actel; Published: 7-Sep-2009; Publisher: Altium Limited; HelpURL: http://www.actel.com/documents/pa3_libguide_ug.pdf
pins: CLK (in), D (in), PRE (in), Q (out)

## DFN0P1
designator U?
2.5 Volt CMOS input levels, low power, low drive strength, normal slew rate; FPGAVendor: Actel; Published: 7-Sep-2009; Publisher: Altium Limited; HelpURL: http://www.actel.com/documents/pa3_libguide_ug.pdf
pins: CLK (in), D (in), PRE (in), Q (out)

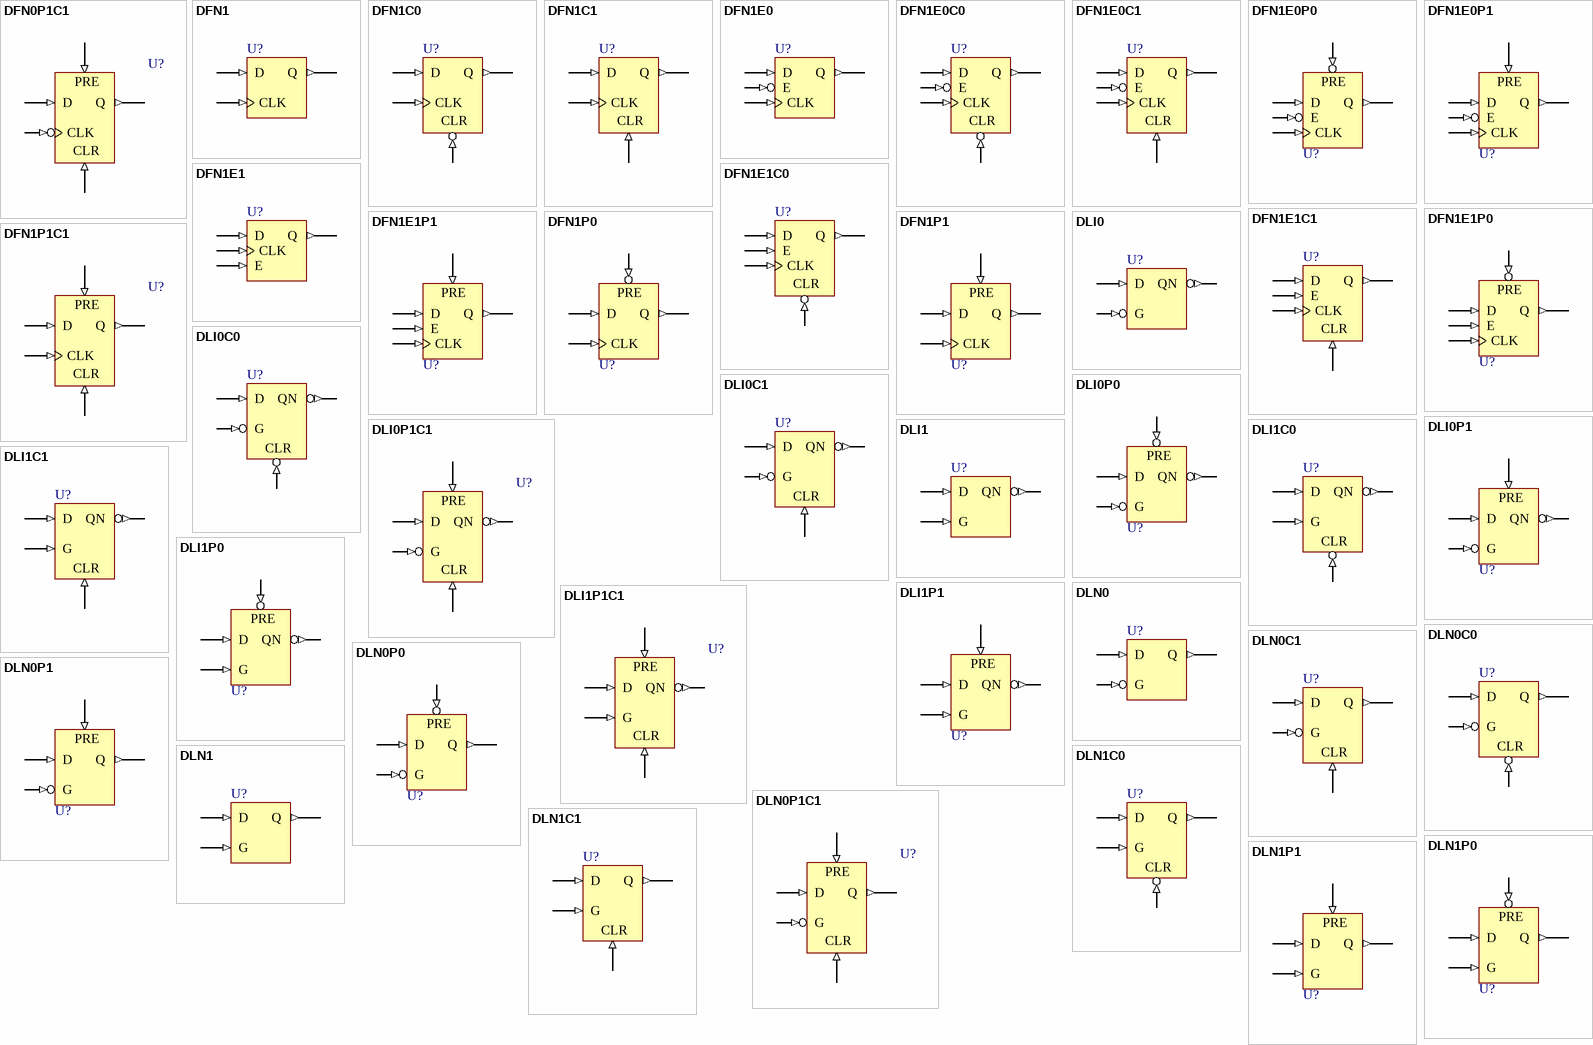
[diagram p4: symbols DFN0P1C1 to DLN1P1]

## DFN0P1C1
designator U?
2.5 Volt CMOS input levels, low power, high drive strength, high slew rate, with pull-up resistor; FPGAVendor: Actel; Published: 7-Sep-2009; Publisher: Altium Limited; HelpURL: http://www.actel.com/documents/pa3_libguide_ug.pdf
pins: CLK (in), CLR (in), D (in), PRE (in), Q (out)

## DFN1
designator U?
2.5 Volt CMOS input levels, low power, high drive strength, low slew rate, with pull-up resistor; FPGAVendor: Actel; Published: 7-Sep-2009; Publisher: Altium Limited; HelpURL: http://www.actel.com/documents/pa3_libguide_ug.pdf
pins: CLK (in), D (in), Q (out)

## DFN1C0
designator U?
2.5 Volt CMOS input levels, low power, high drive strength, normal slew rate, with pull-up resistor; FPGAVendor: Actel; Published: 7-Sep-2009; Publisher: Altium Limited; HelpURL: http://www.actel.com/documents/pa3_libguide_ug.pdf
pins: CLK (in), CLR (in), D (in), Q (out)

## DFN1C1
designator U?
2.5 Volt CMOS input levels, low power, low drive strength, high slew rate, with pull-up resistor; FPGAVendor: Actel; Published: 7-Sep-2009; Publisher: Altium Limited; HelpURL: http://www.actel.com/documents/pa3_libguide_ug.pdf
pins: CLK (in), CLR (in), D (in), Q (out)

## DFN1E0
designator U?
2.5 Volt CMOS input levels, low power, low drive strength, low slew rate, with pull-up resistor; FPGAVendor: Actel; Published: 7-Sep-2009; Publisher: Altium Limited; HelpURL: http://www.actel.com/documents/pa3_libguide_ug.pdf
pins: CLK (in), D (in), E (in), Q (out)

## DFN1E0C0
designator U?
2.5 Volt CMOS input levels, low power, low drive strength, normal slew rate, with pull-up resistor; FPGAVendor: Actel; Published: 7-Sep-2009; Publisher: Altium Limited; HelpURL: http://www.actel.com/documents/pa3_libguide_ug.pdf
pins: CLK (in), CLR (in), D (in), E (in), Q (out)

## DFN1E0C1
designator U?
3.3 Volt CMOS input levels, low strength drive, high slew rate; FPGAVendor: Actel; Published: 7-Sep-2009; Publisher: Altium Limited; HelpURL: http://www.actel.com/documents/pa3_libguide_ug.pdf
pins: CLK (in), CLR (in), D (in), E (in), Q (out)

## DFN1E0P0
designator U?
3.3 Volt CMOS input levels, low strength drive, low slew rate; FPGAVendor: Actel; Published: 7-Sep-2009; Publisher: Altium Limited; HelpURL: http://www.actel.com/documents/pa3_libguide_ug.pdf
pins: CLK (in), D (in), E (in), PRE (in), Q (out)

## DFN1E0P1
designator U?
3.3 Volt CMOS input levels, low strength drive, normal slew rate; FPGAVendor: Actel; Published: 7-Sep-2009; Publisher: Altium Limited; HelpURL: http://www.actel.com/documents/pa3_libguide_ug.pdf
pins: CLK (in), D (in), E (in), PRE (in), Q (out)

## DFN1E1
designator U?
3.3 Volt CMOS input levels, PCI compliant, high slew rate; FPGAVendor: Actel; Published: 7-Sep-2009; Publisher: Altium Limited; HelpURL: http://www.actel.com/documents/pa3_libguide_ug.pdf
pins: CLK (in), D (in), E (in), Q (out)

## DFN1E1C0
designator U?
3.3 Volt CMOS input levels, PCI compliant, low slew rate; FPGAVendor: Actel; Published: 7-Sep-2009; Publisher: Altium Limited; HelpURL: http://www.actel.com/documents/pa3_libguide_ug.pdf
pins: CLK (in), CLR (in), D (in), E (in), Q (out)

## DFN1E1C1
designator U?
3.3 Volt CMOS input levels, PCI compliant, normal slew rate; FPGAVendor: Actel; Published: 7-Sep-2009; Publisher: Altium Limited; HelpURL: http://www.actel.com/documents/pa3_libguide_ug.pdf
pins: CLK (in), CLR (in), D (in), E (in), Q (out)

## DFN1E1P0
designator U?
3.3 Volt CMOS input levels, low strength drive, high slew rate, with pull-up resistor; FPGAVendor: Actel; Published: 7-Sep-2009; Publisher: Altium Limited; HelpURL: http://www.actel.com/documents/pa3_libguide_ug.pdf
pins: CLK (in), D (in), E (in), PRE (in), Q (out)

## DFN1E1P1
designator U?
3.3 Volt CMOS input levels, low strength drive, low slew rate, with pull-up resistor; FPGAVendor: Actel; Published: 7-Sep-2009; Publisher: Altium Limited; HelpURL: http://www.actel.com/documents/pa3_libguide_ug.pdf
pins: CLK (in), D (in), E (in), PRE (in), Q (out)

## DFN1P0
designator U?
3.3 Volt CMOS input levels, low strength drive, normal slew rate, with pull-up resistor; FPGAVendor: Actel; Published: 7-Sep-2009; Publisher: Altium Limited; HelpURL: http://www.actel.com/documents/pa3_libguide_ug.pdf
pins: CLK (in), D (in), PRE (in), Q (out)

## DFN1P1
designator U?
3.3 Volt CMOS input levels, PCI compliant, high slew rate, with pull-up resistor; FPGAVendor: Actel; Published: 7-Sep-2009; Publisher: Altium Limited; HelpURL: http://www.actel.com/documents/pa3_libguide_ug.pdf
pins: CLK (in), D (in), PRE (in), Q (out)

## DFN1P1C1
designator U?
3.3 Volt CMOS input levels, PCI compliant, low slew rate, with pull-up resistor; FPGAVendor: Actel; Published: 7-Sep-2009; Publisher: Altium Limited; HelpURL: http://www.actel.com/documents/pa3_libguide_ug.pdf
pins: CLK (in), CLR (in), D (in), PRE (in), Q (out)

## DLI0
designator U?
3.3 Volt CMOS input levels, PCI compliant, normal slew rate, with pull-up resistor; FPGAVendor: Actel; Published: 7-Sep-2009; Publisher: Altium Limited; HelpURL: http://www.actel.com/documents/pa3_libguide_ug.pdf
pins: D (in), G (in), QN (out)

## DLI0C0
designator U?
2.5 Volt CMOS input levels, high strength drive, high slew rate; FPGAVendor: Actel; Published: 7-Sep-2009; Publisher: Altium Limited; HelpURL: http://www.actel.com/documents/pa3_libguide_ug.pdf
pins: CLR (in), D (in), G (in), QN (out)

## DLI0C1
designator U?
2.5 Volt CMOS input levels, high strength drive, low slew rate; FPGAVendor: Actel; Published: 7-Sep-2009; Publisher: Altium Limited; HelpURL: http://www.actel.com/documents/pa3_libguide_ug.pdf
pins: CLR (in), D (in), G (in), QN (out)

## DLI0P0
designator U?
2.5 Volt CMOS input levels, high strength drive, normal slew rate; FPGAVendor: Actel; Published: 7-Sep-2009; Publisher: Altium Limited; HelpURL: http://www.actel.com/documents/pa3_libguide_ug.pdf
pins: D (in), G (in), PRE (in), QN (out)

## DLI0P1
designator U?
2.5 Volt CMOS input levels, low strength drive, high slew rate; FPGAVendor: Actel; Published: 7-Sep-2009; Publisher: Altium Limited; HelpURL: http://www.actel.com/documents/pa3_libguide_ug.pdf
pins: D (in), G (in), PRE (in), QN (out)

## DLI0P1C1
designator U?
2.5 Volt CMOS input levels, low strength drive, low slew rate; FPGAVendor: Actel; Published: 7-Sep-2009; Publisher: Altium Limited; HelpURL: http://www.actel.com/documents/pa3_libguide_ug.pdf
pins: CLR (in), D (in), G (in), PRE (in), QN (out)

## DLI1
designator U?
2.5 Volt CMOS input levels, low strength drive, normal slew rate; FPGAVendor: Actel; Published: 7-Sep-2009; Publisher: Altium Limited; HelpURL: http://www.actel.com/documents/pa3_libguide_ug.pdf
pins: D (in), G (in), QN (out)

## DLI1C0
designator U?
2.5 Volt CMOS input levels, low power, high strength drive, high slew rate; FPGAVendor: Actel; Published: 7-Sep-2009; Publisher: Altium Limited; HelpURL: http://www.actel.com/documents/pa3_libguide_ug.pdf
pins: CLR (in), D (in), G (in), QN (out)

## DLI1C1
designator U?
2.5 Volt CMOS input levels, low power, high strength drive, low slew rate; FPGAVendor: Actel; Published: 7-Sep-2009; Publisher: Altium Limited; HelpURL: http://www.actel.com/documents/pa3_libguide_ug.pdf
pins: CLR (in), D (in), G (in), QN (out)

## DLI1P0
designator U?
2.5 Volt CMOS input levels, low power, high strength drive, normal slew rate; FPGAVendor: Actel; Published: 7-Sep-2009; Publisher: Altium Limited; HelpURL: http://www.actel.com/documents/pa3_libguide_ug.pdf
pins: D (in), G (in), PRE (in), QN (out)

## DLI1P1
designator U?
2.5 Volt CMOS input levels, low power, low strength drive, high slew rate; FPGAVendor: Actel; Published: 7-Sep-2009; Publisher: Altium Limited; HelpURL: http://www.actel.com/documents/pa3_libguide_ug.pdf
pins: D (in), G (in), PRE (in), QN (out)

## DLI1P1C1
designator U?
2.5 Volt CMOS input levels, low power, low strength drive, low slew rate; FPGAVendor: Actel; Published: 7-Sep-2009; Publisher: Altium Limited; HelpURL: http://www.actel.com/documents/pa3_libguide_ug.pdf
pins: CLR (in), D (in), G (in), PRE (in), QN (out)

## DLN0
designator U?
2.5 Volt CMOS input levels, low power, low strength drive, normal slew rate; FPGAVendor: Actel; Published: 7-Sep-2009; Publisher: Altium Limited; HelpURL: http://www.actel.com/documents/pa3_libguide_ug.pdf
pins: D (in), G (in), Q (out)

## DLN0C0
designator U?
3.3 Volt CMOS input levels, low strength drive, high slew rate; FPGAVendor: Actel; Published: 7-Sep-2009; Publisher: Altium Limited; HelpURL: http://www.actel.com/documents/pa3_libguide_ug.pdf
pins: CLR (in), D (in), G (in), Q (out)

## DLN0C1
designator U?
3.3 Volt CMOS input levels, low strength drive, low slew rate; FPGAVendor: Actel; Published: 7-Sep-2009; Publisher: Altium Limited; HelpURL: http://www.actel.com/documents/pa3_libguide_ug.pdf
pins: CLR (in), D (in), G (in), Q (out)

## DLN0P0
designator U?
3.3 Volt CMOS input levels, low strength drive, normal slew rate; FPGAVendor: Actel; Published: 7-Sep-2009; Publisher: Altium Limited; HelpURL: http://www.actel.com/documents/pa3_libguide_ug.pdf
pins: D (in), G (in), PRE (in), Q (out)

## DLN0P1
designator U?
3.3 Volt CMOS input levels, PCI compliant, high slew rate; FPGAVendor: Actel; Published: 7-Sep-2009; Publisher: Altium Limited; HelpURL: http://www.actel.com/documents/pa3_libguide_ug.pdf
pins: D (in), G (in), PRE (in), Q (out)

## DLN0P1C1
designator U?
3.3 Volt CMOS input levels, PCI compliant, low slew rate; FPGAVendor: Actel; Published: 7-Sep-2009; Publisher: Altium Limited; HelpURL: http://www.actel.com/documents/pa3_libguide_ug.pdf
pins: CLR (in), D (in), G (in), PRE (in), Q (out)

## DLN1
designator U?
3.3 Volt CMOS input levels, PCI compliant, normal slew rate; FPGAVendor: Actel; Published: 7-Sep-2009; Publisher: Altium Limited; HelpURL: http://www.actel.com/documents/pa3_libguide_ug.pdf
pins: D (in), G (in), Q (out)

## DLN1C0
designator U?
2.5 Volt CMOS input levels, high strength drive, high slew rate; FPGAVendor: Actel; Published: 7-Sep-2009; Publisher: Altium Limited; HelpURL: http://www.actel.com/documents/pa3_libguide_ug.pdf
pins: CLR (in), D (in), G (in), Q (out)

## DLN1C1
designator U?
2.5 Volt CMOS input levels, high strength drive, low slew rate; FPGAVendor: Actel; Published: 7-Sep-2009; Publisher: Altium Limited; HelpURL: http://www.actel.com/documents/pa3_libguide_ug.pdf
pins: CLR (in), D (in), G (in), Q (out)

## DLN1P0
designator U?
2.5 Volt CMOS input levels, high strength drive, normal slew rate; FPGAVendor: Actel; Published: 7-Sep-2009; Publisher: Altium Limited; HelpURL: http://www.actel.com/documents/pa3_libguide_ug.pdf
pins: D (in), G (in), PRE (in), Q (out)

## DLN1P1
designator U?
2.5 Volt CMOS input levels, low strength drive, high slew rate; FPGAVendor: Actel; Published: 7-Sep-2009; Publisher: Altium Limited; HelpURL: http://www.actel.com/documents/pa3_libguide_ug.pdf
pins: D (in), G (in), PRE (in), Q (out)

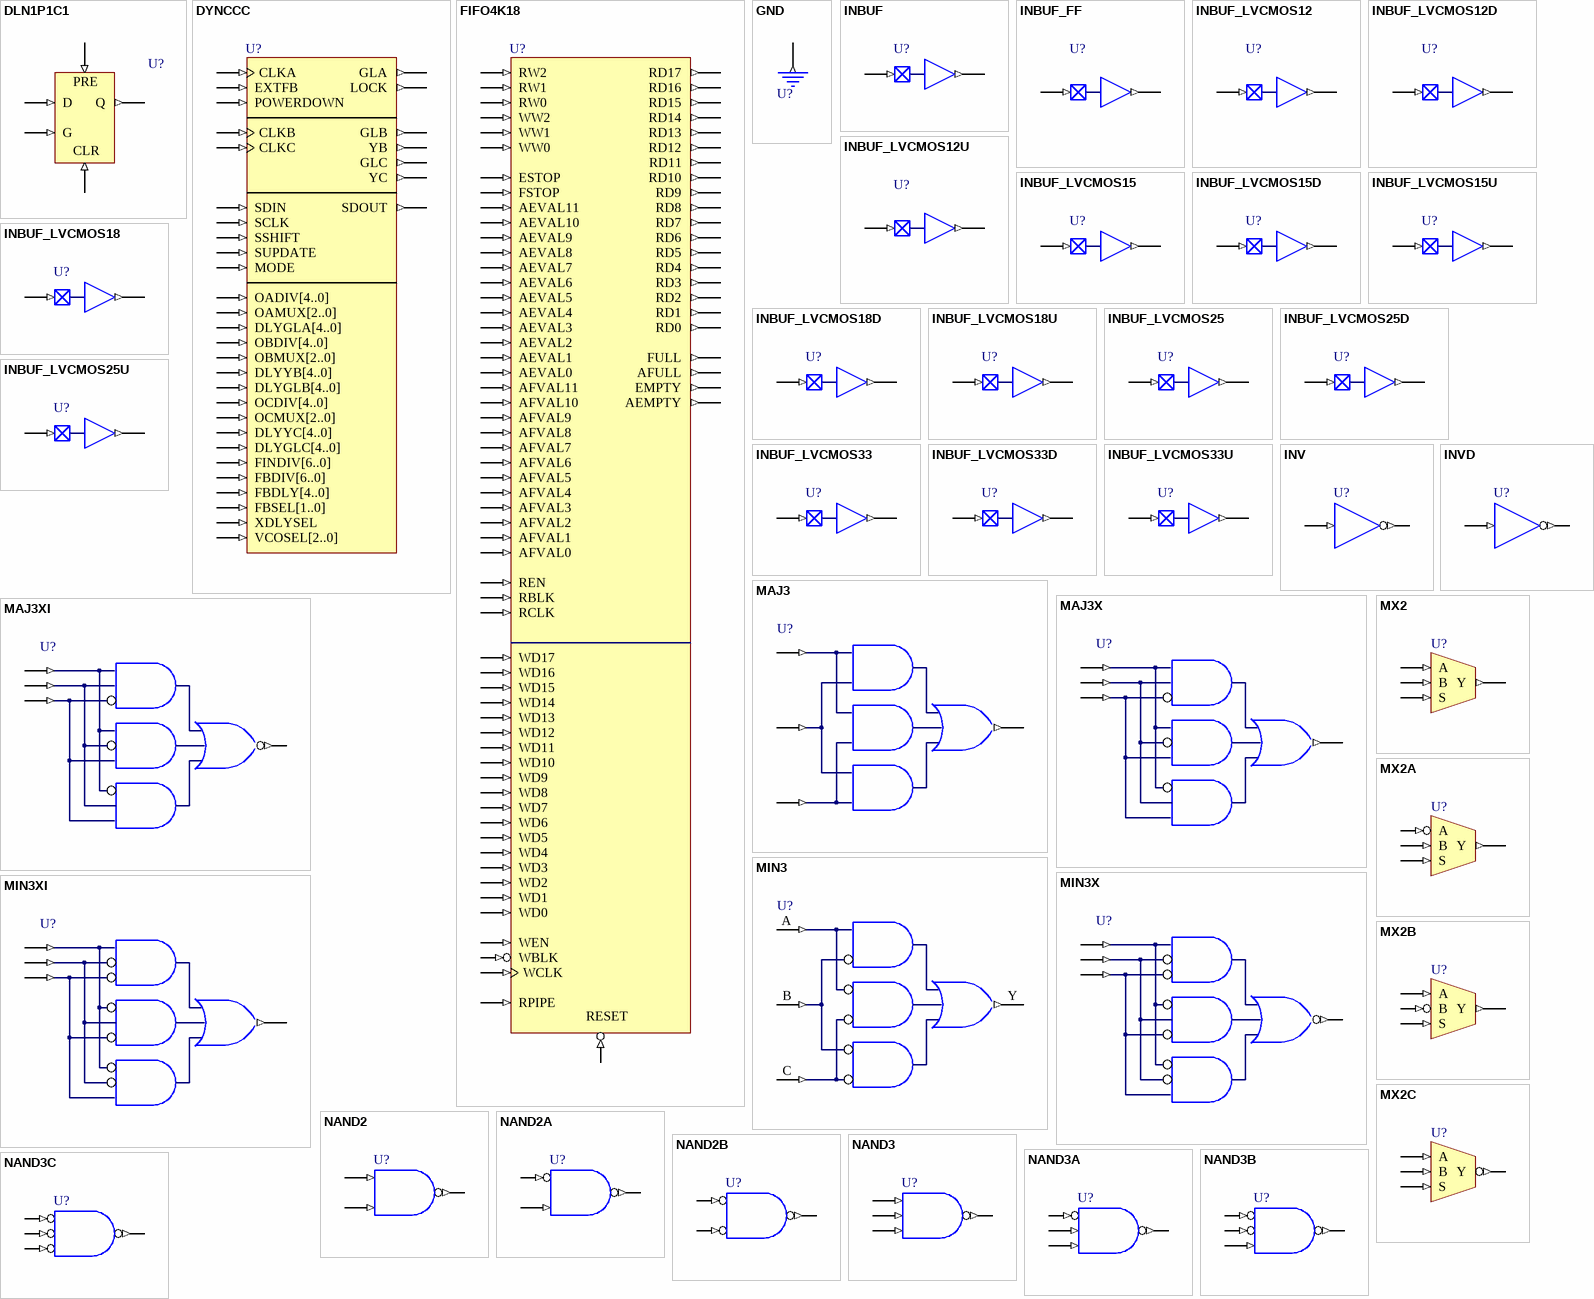
[diagram p5: symbols DLN1P1C1 to NAND3C]